# EAGLE library part 1054500101 (library 2025-05-17_06-09-50_Library)
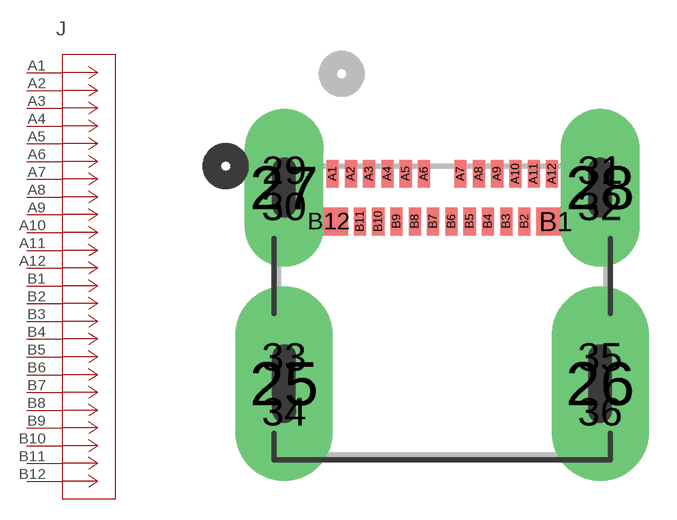
[diagram p0: symbol with the pads of CONN_105450-0101_MOL; footprint CONN_105450-0101_MOL]

Designator prefix J

## 1054500101CONN_105450-0101_MOL (Copyright: Copyright (C) 2025 Ultra Librarian. All rights reserved.; Manufacturer_Part_Number: 1054500101; Mfr_Name: Molex Connector Corporation)  [CONN_105450-0101_MOL]
A1  A1  pas
A2  A2  pas
A3  A3  pas
A4  A4  pas
A5  A5  pas
A6  A6  pas
A7  A7  pas
A8  A8  pas
A9  A9  pas
A10  A10  pas
A11  A11  pas
A12  A12  pas
B1  B1  pas
B2  B2  pas
B3  B3  pas
B4  B4  pas
B5  B5  pas
B6  B6  pas
B7  B7  pas
B8  B8  pas
B9  B9  pas
B10  B10  pas
B11  B11  pas
B12  B12  pas

## Footprint CONN_105450-0101_MOL (pad centres in mm)
drill 0.025 pad 2.667 long: 25 -4.32,-1.999; 26 4.32,-1.999
drill 0.025 pad 2.159 long: 27 -4.32,3.361; 28 4.32,3.361
drill 0.66 pad 0.66 round: 29 -4.32,3.856; 30 -4.32,2.865; 31 4.32,3.856; 32 4.32,2.865; 33 -4.32,-1.25; 34 -4.32,-2.749; 35 4.32,-1.25; 36 4.32,-2.749
smd 0.33 x 0.762: A1 -3,3.74; A2 -2.5,3.74; A3 -2,3.74; A4 -1.5,3.74; A5 -1,3.74; A6 -0.5,3.74; A7 0.5,3.74; A8 1,3.74; A9 1.5,3.74; A10 2,3.74; A11 2.5,3.74; A12 3,3.74; B2 2.25,2.44; B3 1.75,2.44; B4 1.25,2.44; B5 0.75,2.44; B6 0.25,2.44; B7 -0.25,2.44; B8 -0.75,2.44; B9 -1.25,2.44; B10 -1.75,2.44; B11 -2.25,2.44
smd 1.041 x 0.762: B1 3.1,2.44; B12 -3.1,2.44